# EAGLE library part MEGA168-32 (library Jim)
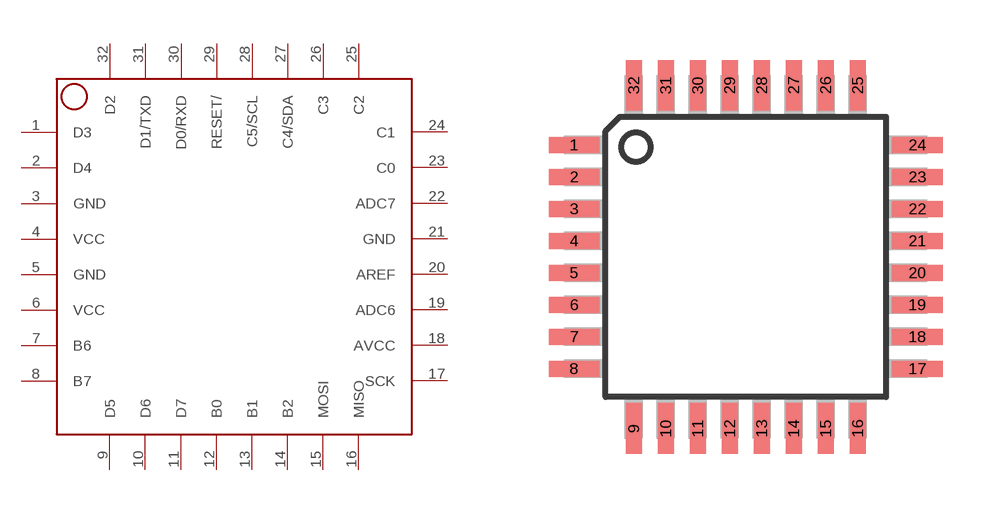
[diagram p24: symbol with the pads of TQFP32-08; footprint TQFP32-08]

Designator prefix -

## MEGA168-32  [TQFP32-08]
1  D3
2  D4
3  GND
4  VCC
5  GND
6  VCC
7  B6
8  B7
9  D5
10  D6
11  D7
12  B0
13  B1
14  B2
15  MOSI
16  MISO
17  SCK
18  AVCC
19  ADC6
20  AREF
21  GND
22  ADC7
23  C0
24  C1
25  C2
26  C3
27  C4/SDA
28  C5/SCL
29  RESET/
30  D0/RXD
31  D1/TXD
32  D2

## Footprint TQFP32-08 (pad centres in mm)
smd 1.27 x 0.4: 1 -4.293,2.8; 2 -4.293,2; 3 -4.293,1.2; 4 -4.293,0.4; 5 -4.293,-0.4; 6 -4.293,-1.2; 7 -4.293,-2; 8 -4.293,-2.8; 17 4.293,-2.8; 18 4.293,-2; 19 4.293,-1.2; 20 4.293,-0.4; 21 4.293,0.4; 22 4.293,1.2; 23 4.293,2; 24 4.293,2.8
smd 0.4 x 1.27: 9 -2.8,-4.293; 10 -2,-4.293; 11 -1.2,-4.293; 12 -0.4,-4.293; 13 0.4,-4.293; 14 1.2,-4.293; 15 2,-4.293; 16 2.8,-4.293; 25 2.8,4.293; 26 2,4.293; 27 1.2,4.293; 28 0.4,4.293; 29 -0.4,4.293; 30 -1.2,4.293; 31 -2,4.293; 32 -2.8,4.293